# EAGLE library part SM51589PEL (library HyTechDevices)
Bourns High Isolation LAN Transformer Module 5000 VAC Isolation Turns Ratio: 1CT:1CT Inductance: 350 uH Leakage Inductance: 0.5 uH Datasheet <http://www.mouser.com/ds/2/54/m51589pel-778121.pdf>
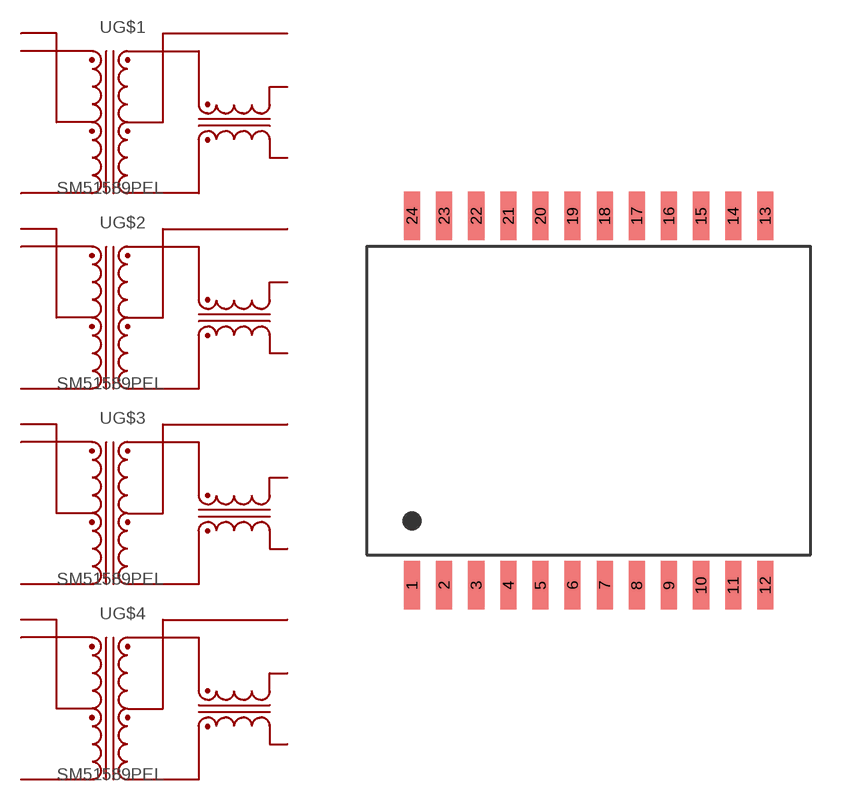
[diagram p69: symbol with the pads of SM51589PEL; footprint SM51589PEL]

Designator prefix -; gates G$1=TRANSFORMER G$2=TRANSFORMER G$3=TRANSFORMER G$4=TRANSFORMER

## SM51589PEL  [SM51589PEL]
1  G$1:MCT  pas
2  G$1:MX+  pas
3  G$1:MX-  pas
4  G$2:MCT  pas
5  G$2:MX+  pas
6  G$2:MX-  pas
7  G$3:MCT  pas
8  G$3:MX+  pas
9  G$3:MX-  pas
10  G$4:MCT  pas
11  G$4:MX+  pas
12  G$4:MX-  pas
13  G$4:TD-  pas
14  G$4:TD+  pas
15  G$4:TCT  pas
16  G$3:TD-  pas
17  G$3:TD+  pas
18  G$3:TCT  pas
19  G$2:TD-  pas
20  G$2:TD+  pas
21  G$2:TCT  pas
22  G$1:TD-  pas
23  G$1:TD+  pas
24  G$1:TCT  pas

## Footprint SM51589PEL (pad centres in mm)
smd 0.635 x 1.905: 1 0,0; 2 1.27,0; 3 2.54,0; 4 3.81,0; 5 5.08,0; 6 6.35,0; 7 7.62,0; 8 8.89,0; 9 10.16,0; 10 11.43,0; 11 12.7,0; 12 13.97,0; 13 13.97,14.605; 14 12.7,14.605; 15 11.43,14.605; 16 10.16,14.605; 17 8.89,14.605; 18 7.62,14.605; 19 6.35,14.605; 20 5.08,14.605; 21 3.81,14.605; 22 2.54,14.605; 23 1.27,14.605; 24 0,14.605